# Altium schematic symbol library SN74LVC1G32 OR Gate.SchLib: 1 symbol
Pins are listed as number, name and electrical type; pins without a type are passive.

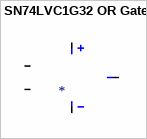
[diagram p0: symbol SN74LVC1G32 OR Gate]

## SN74LVC1G32 OR Gate
designator ?
pins: 1 A, 2 B, 3 GND, 4 B, 5 Vcc